# Altium schematic symbol library G7L2AXLDC12.SchLib: 1 symbol
Pins are listed as number, name and electrical type; pins without a type are passive.

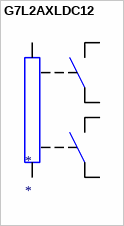
[diagram p0: symbol G7L2AXLDC12]

## G7L2AXLDC12
designator *
pins: 1 +, 2 NO11, 3 NO12, 4 NO21, 5 NO22, 6 -